# EAGLE library part 6250XX22121_62502022121 (library con-wurth-board-header)
WR-BHD 2.00 mm Male Angled Box Header w. Lever KIND PROPERTIES: Pitch 2 mm Gender:Male MATERIAL PROPERTIES: Insulator Material:PBT Insulator Flammability Rating UL94 V-0 Insulator Color:Black Contact Material :Copper Alloy Contact Plating :Gold Contact Type: Stamped GENERAL INFORMATION: Operating Temperature:-40 °C up to +125 °C Compliance:RoHS Working Voltage: 250 V (AC) Withstanding Voltage:500 V (AC) Contact Resistance: 20 mΩ Insulation Resistance:1000 MΩ CERTIFICATION UL Approval:E323964 PACKAGING PROPERTIES Packaging :Tray <https://www.we-online.de/katalog/media/o32938v209%20Family_WR-BHD_6250xx22121.jpg> Details see: https://www.we-online.de/katalog/en/em/BHD_2_00_MALE_ANGLED_BOX_HEADER_WITH_LEVER_6250XX22121 Updated by Yingchun,Shan 2019-11-04 2019 (C) Würth Elektronik
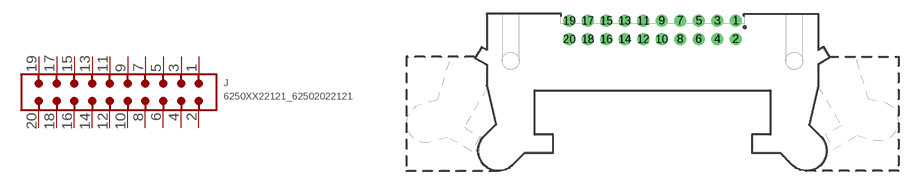
[diagram p142: symbol with the pads of 62502022121; footprint 62502022121]

Designator prefix J

## 6250XX22121_62502022121 (CONTACT-RESISTANCE: 20mOhm; DATASHEET-URL: https://www.we-online.com/redexpert/spec/62502022121?ae; GENDER: Male; IR: 2A; LENGTH: 35.7mm; MOUNT: THT; PACKAGING: Tray; PART-NUMBER: 62502022121; PINS: 20; PITCH: 2mm; TYPE: Angled; VALUE: 62502022121; WORKING-VOLTAGE: 250V(AC))  [62502022121]
1  1  pas
2  2  pas
3  3  pas
4  4  pas
5  5  pas
6  6  pas
7  7  pas
8  8  pas
9  9  pas
10  10  pas
11  11  pas
12  12  pas
13  13  pas
14  14  pas
15  15  pas
16  16  pas
17  17  pas
18  18  pas
19  19  pas
20  20  pas

## Footprint 62502022121 (pad centres in mm)
WR-BHD 2.00 mm Male Angled Box Header w. Lever,20 pins
drill 0.8: 1 9,3.4; 2 9,1.4; 3 7,3.4; 4 7,1.4; 5 5,3.4; 6 5,1.4; 7 3,3.4; 8 3,1.4; 9 1,3.4; 10 1,1.4; 11 -1,3.4; 12 -1,1.4; 13 -3,3.4; 14 -3,1.4; 15 -5,3.4; 16 -5,1.4; 17 -7,3.4; 18 -7,1.4; 19 -9,3.4; 20 -9,1.4